# EAGLE library part SPI (library RASEagleLib)
SPI Connector
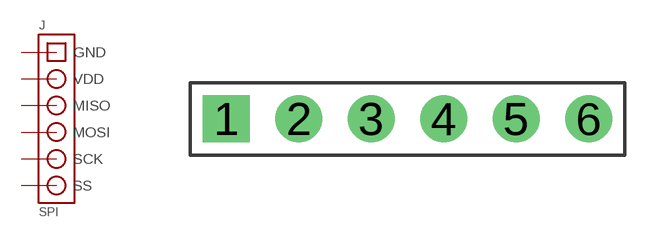
[diagram p9: symbol with the pads of 0.1IN_HEADER_1X6; footprint 0.1IN_HEADER_1X6]

Designator prefix J

## SPI  [0.1IN_HEADER_1X6]
1  GND
2  VDD
3  MISO
4  MOSI
5  SCK
6  SS

## Footprint 0.1IN_HEADER_1X6 (pad centres in mm)
drill 1.1 square: 1 -6.35,0
drill 1.1: 2 -3.81,0; 3 -1.27,0; 4 1.27,0; 5 3.81,0; 6 6.35,0